# EAGLE library part BTH-060-01-L-D-A (library pbxl)
SAMTEC - BTH-060-01-L-D-A - BLADE & BEAM HEADER, 120POS, 2ROW, 0.5MM Source: Datasheet <http://suddendocs.samtec.com/prints/bth-xxx-xx-x-d-xx-mkt.pdf>
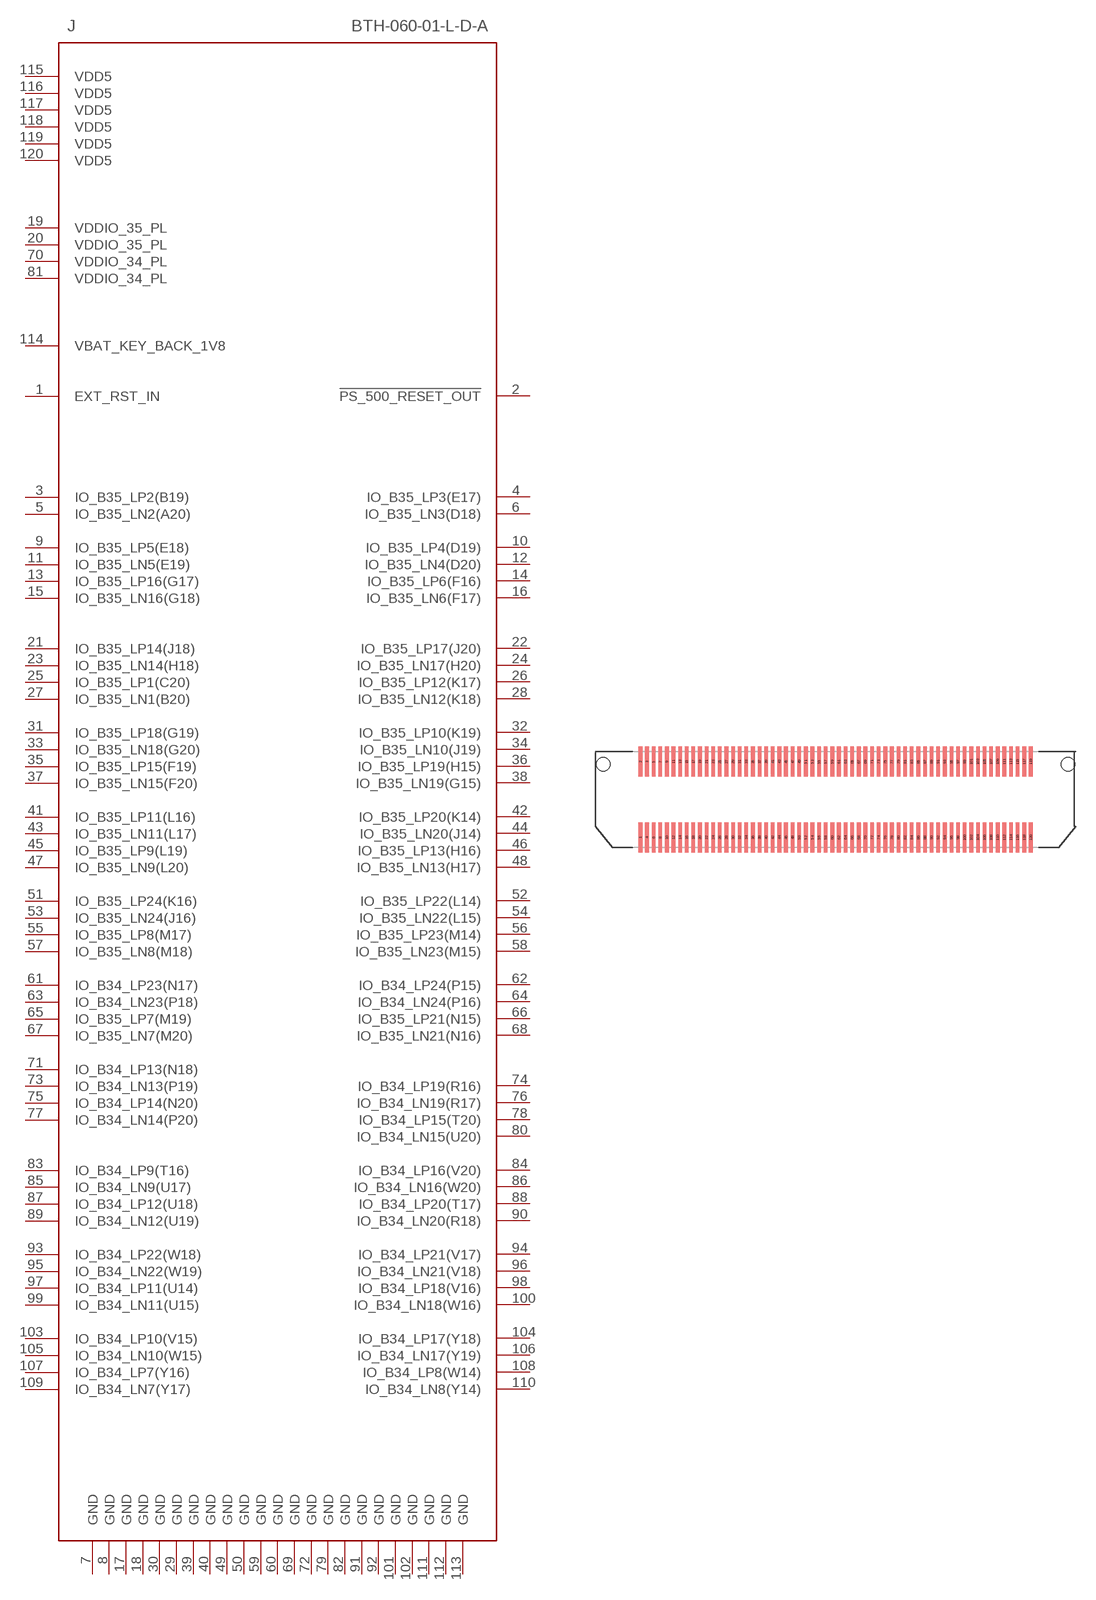
[diagram p3: symbol with the pads of BSH-060-01-L-D-A; footprint BSH-060-01-L-D-A]

Designator prefix J

## BTH-060-01-L-D-A (DESCRIPTION: SAMTEC - BTH-060-01-L-D-A - BLADE & BEAM HEADER, 120POS, 2ROW, 0.5MM; HEIGHT: mm; MANUFACTURER_NAME: SAMTEC; MANUFACTURER_PART_NUMBER: BTH-060-01-L-D-A; MOUSER_PART_NUMBER: 200-BTH06001LDA; MOUSER_PRICE-STOCK: https://www.mouser.com/Search/Refine.aspx?Keyword=200-BTH06001LDA; RS_PART_NUMBER: 1593644; RS_PRICE-STOCK: https://uk.rs-online.com/web/p/products/1593644)  [BSH-060-01-L-D-A]
1  EXT_RST_IN
2  !PS_500_RESET_OUT!
3  IO_B35_LP2(B19)
4  IO_B35_LP3(E17)
5  IO_B35_LN2(A20)
6  IO_B35_LN3(D18)
7  GND
8  GND
9  IO_B35_LP5(E18)
10  IO_B35_LP4(D19)
11  IO_B35_LN5(E19)
12  IO_B35_LN4(D20)
13  IO_B35_LP16(G17)
14  IO_B35_LP6(F16)
15  IO_B35_LN16(G18)
16  IO_B35_LN6(F17)
17  GND
18  GND
19  VDDIO_35_PL
20  VDDIO_35_PL
21  IO_B35_LP14(J18)
22  IO_B35_LP17(J20)
23  IO_B35_LN14(H18)
24  IO_B35_LN17(H20)
25  IO_B35_LP1(C20)
26  IO_B35_LP12(K17)
27  IO_B35_LN1(B20)
28  IO_B35_LN12(K18)
29  GND
30  GND
31  IO_B35_LP18(G19)
32  IO_B35_LP10(K19)
33  IO_B35_LN18(G20)
34  IO_B35_LN10(J19)
35  IO_B35_LP15(F19)
36  IO_B35_LP19(H15)
37  IO_B35_LN15(F20)
38  IO_B35_LN19(G15)
39  GND
40  GND
41  IO_B35_LP11(L16)
42  IO_B35_LP20(K14)
43  IO_B35_LN11(L17)
44  IO_B35_LN20(J14)
45  IO_B35_LP9(L19)
46  IO_B35_LP13(H16)
47  IO_B35_LN9(L20)
48  IO_B35_LN13(H17)
49  GND
50  GND
51  IO_B35_LP24(K16)
52  IO_B35_LP22(L14)
53  IO_B35_LN24(J16)
54  IO_B35_LN22(L15)
55  IO_B35_LP8(M17)
56  IO_B35_LP23(M14)
57  IO_B35_LN8(M18)
58  IO_B35_LN23(M15)
59  GND
60  GND
61  IO_B34_LP23(N17)
62  IO_B34_LP24(P15)
63  IO_B34_LN23(P18)
64  IO_B34_LN24(P16)
65  IO_B35_LP7(M19)
66  IO_B35_LP21(N15)
67  IO_B35_LN7(M20)
68  IO_B35_LN21(N16)
69  GND
70  VDDIO_34_PL
71  IO_B34_LP13(N18)
72  GND
73  IO_B34_LN13(P19)
74  IO_B34_LP19(R16)
75  IO_B34_LP14(N20)
76  IO_B34_LN19(R17)
77  IO_B34_LN14(P20)
78  IO_B34_LP15(T20)
79  GND
80  IO_B34_LN15(U20)
81  VDDIO_34_PL
82  GND
83  IO_B34_LP9(T16)
84  IO_B34_LP16(V20)
85  IO_B34_LN9(U17)
86  IO_B34_LN16(W20)
87  IO_B34_LP12(U18)
88  IO_B34_LP20(T17)
89  IO_B34_LN12(U19)
90  IO_B34_LN20(R18)
91  GND
92  GND
93  IO_B34_LP22(W18)
94  IO_B34_LP21(V17)
95  IO_B34_LN22(W19)
96  IO_B34_LN21(V18)
97  IO_B34_LP11(U14)
98  IO_B34_LP18(V16)
99  IO_B34_LN11(U15)
100  IO_B34_LN18(W16)
101  GND
102  GND
103  IO_B34_LP10(V15)
104  IO_B34_LP17(Y18)
105  IO_B34_LN10(W15)
106  IO_B34_LN17(Y19)
107  IO_B34_LP7(Y16)
108  IO_B34_LP8(W14)
109  IO_B34_LN7(Y17)
110  IO_B34_LN8(Y14)
111  GND
112  GND
113  GND
114  VBAT_KEY_BACK_1V8
115  VDD5
116  VDD5
117  VDD5
118  VDD5
119  VDD5
120  VDD5

## Footprint BSH-060-01-L-D-A (pad centres in mm)
BTH-060-01-X-D-A
smd 0.279 x 2.273: 1 -14.75,-2.864; 2 -14.75,2.864; 3 -14.25,2.864; 4 -14.25,-2.864; 5 -13.75,2.864; 6 -13.75,-2.864; 7 -13.25,2.864; 8 -13.25,-2.864; 9 -12.75,2.864; 10 -12.75,-2.864; 11 -12.25,2.864; 12 -12.25,-2.864; 13 -11.75,2.864; 14 -11.75,-2.864; 15 -11.25,2.864; 16 -11.25,-2.864; 17 -10.75,2.864; 18 -10.75,-2.864; 19 -10.25,2.864; 20 -10.25,-2.864; 21 -9.75,2.864; 22 -9.75,-2.864; 23 -9.25,2.864; 24 -9.25,-2.864; 25 -8.75,2.864; 26 -8.75,-2.864; 27 -8.25,2.864; 28 -8.25,-2.864; 29 -7.75,2.864; 30 -7.75,-2.864; 31 -7.25,2.864; 32 -7.25,-2.864; 33 -6.75,2.864; 34 -6.75,-2.864; 35 -6.25,2.864; 36 -6.25,-2.864; 37 -5.75,2.864; 38 -5.75,-2.864; 39 -5.25,2.864; 40 -5.25,-2.864; 41 -4.75,2.864; 42 -4.75,-2.864; 43 -4.25,2.864; 44 -4.25,-2.864; 45 -3.75,2.864; 46 -3.75,-2.864; 47 -3.25,2.864; 48 -3.25,-2.864; 49 -2.75,2.864; 50 -2.75,-2.864; 51 -2.25,2.864; 52 -2.25,-2.864; 53 -1.75,2.864; 54 -1.75,-2.864; 55 -1.25,2.864; 56 -1.25,-2.864; 57 -0.75,2.864; 58 -0.75,-2.864; 59 -0.25,2.864; 60 -0.25,-2.864; 61 0.25,2.864; 62 0.25,-2.864; 63 0.75,2.864; 64 0.75,-2.864; 65 1.25,2.864; 66 1.25,-2.864; 67 1.75,2.864; 68 1.75,-2.864; 69 2.25,2.864; 70 2.25,-2.864; 71 2.75,2.864; 72 2.75,-2.864; 73 3.25,2.864; 74 3.25,-2.864; 75 3.75,2.864; 76 3.75,-2.864; 77 4.25,2.864; 78 4.25,-2.864; 79 4.75,2.864; 80 4.75,-2.864; 81 5.25,2.864; 82 5.25,-2.864; 83 5.75,2.864; 84 5.75,-2.864; 85 6.25,2.864; 86 6.25,-2.864; 87 6.75,2.864; 88 6.75,-2.864; 89 7.25,2.864; 90 7.25,-2.864; 91 7.75,2.864; 92 7.75,-2.864; 93 8.25,2.864; 94 8.25,-2.864; 95 8.75,2.864; 96 8.75,-2.864; 97 9.25,2.864; 98 9.25,-2.864; 99 9.75,2.864; 100 9.75,-2.864; 101 10.25,2.864; 102 10.25,-2.864; 103 10.75,2.864; 104 10.75,-2.864; 105 11.25,2.864; 106 11.25,-2.864; 107 11.75,2.864; 108 11.75,-2.864; 109 12.25,2.864; 110 12.25,-2.864; 111 12.75,2.864; 112 12.75,-2.864; 113 13.25,2.864; 114 13.25,-2.864; 115 13.75,2.864; 116 13.75,-2.864; 117 14.25,2.864; 118 14.25,-2.864; 119 14.75,2.864; 120 14.75,-2.864
hole 1.016 at -17.563,2.666
hole 1.016 at 17.563,2.666